# EAGLE library part IT9133 (library CrystalVideo)
ITE IT9133 COFDM Demodulation SOC
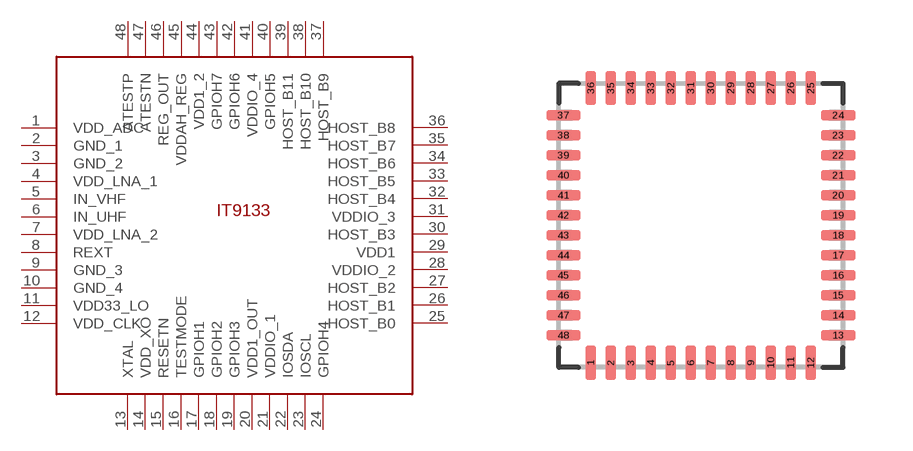
[diagram p1: symbol with the pads of QFN48P50_IT9133; footprint QFN48P50_IT9133]

Designator prefix -

## IT9133  [QFN48P50_IT9133]
1  VDD_ADC
2  GND_1
3  GND_2
4  VDD_LNA_1
5  IN_VHF
6  IN_UHF
7  VDD_LNA_2
8  REXT
9  GND_3
10  GND_4
11  VDD33_LO
12  VDD_CLK
13  XTAL
14  VDD_XO
15  RESETN
16  TESTMODE
17  GPIOH1
18  GPIOH2
19  GPIOH3
20  VDD1_OUT
21  VDDIO_1
22  IOSDA
23  IOSCL
24  GPIOH4
25  HOST_B0
26  HOST_B1
27  HOST_B2
28  VDDIO_2
29  VDD1
30  HOST_B3
31  VDDIO_3
32  HOST_B4
33  HOST_B5
34  HOST_B6
35  HOST_B7
36  HOST_B8
37  HOST_B9
38  HOST_B10
39  HOST_B11
40  GPIOH5
41  VDDIO_4
42  GPIOH6
43  GPIOH7
44  VDD1_2
45  VDDAH_REG
46  REG_OUT
47  ATESTN
48  ATESTP

## Footprint QFN48P50_IT9133 (pad centres in mm)
ITE IT9133 Quad Flat No-Lead (QFN), 0.50 mm pitch; square, 12 pin X 12 pin, 7.00 mm L X 7.00 mm W X 0.90 mm H body PCB Libraries Packages
smd 0.26 x 0.86: 1 -2.75,-3.435; 2 -2.25,-3.435; 3 -1.75,-3.435; 4 -1.25,-3.435; 5 -0.75,-3.435; 6 -0.25,-3.435; 7 0.25,-3.435; 8 0.75,-3.435; 9 1.25,-3.435; 10 1.75,-3.435; 11 2.25,-3.435; 12 2.75,-3.435; 25 2.75,3.435; 26 2.25,3.435; 27 1.75,3.435; 28 1.25,3.435; 29 0.75,3.435; 30 0.25,3.435; 31 -0.25,3.435; 32 -0.75,3.435; 33 -1.25,3.435; 34 -1.75,3.435; 35 -2.25,3.435; 36 -2.75,3.435
smd 0.86 x 0.26: 13 3.435,-2.75; 14 3.435,-2.25; 15 3.435,-1.75; 16 3.435,-1.25; 17 3.435,-0.75; 18 3.435,-0.25; 19 3.435,0.25; 20 3.435,0.75; 21 3.435,1.25; 22 3.435,1.75; 23 3.435,2.25; 24 3.435,2.75; 37 -3.435,2.75; 38 -3.435,2.25; 39 -3.435,1.75; 40 -3.435,1.25; 41 -3.435,0.75; 42 -3.435,0.25; 43 -3.435,-0.25; 44 -3.435,-0.75; 45 -3.435,-1.25; 46 -3.435,-1.75; 47 -3.435,-2.25; 48 -3.435,-2.75